# Altium schematic symbol library seniorprojlib.SchLib: 1 symbol
Pins are listed as number, name and electrical type; pins without a type are passive.

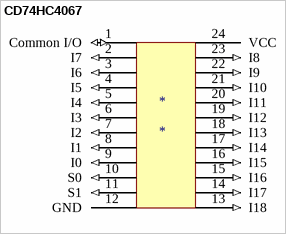
[diagram p0: symbol CD74HC4067]

## CD74HC4067
designator *
High-Speed CMOS Logic / 16-Channel Analog Multiplexer/Demultiplexer
footprint CD74HC4067 (High-Speed CMOS Logic  16-Channel Analog Multiplexer/Demultiplexer)
pins: 1 Common I/O (io), 2 I7 (in), 3 I6 (in), 4 I5 (in), 5 I4 (in), 6 I3 (in), 7 I2 (in), 8 I1 (in), 9 I0 (in), 10 S0 (in), 11 S1 (in), 12 GND (power), 13 I18 (in), 14 I17 (in), 15 I16 (in), 16 I15 (in), 17 I14 (in), 18 I13 (in), 19 I12 (in), 20 I11 (in), 21 I10 (in), 22 I9 (in), 23 I8 (in), 24 VCC (power)